# EAGLE library part TPS61200 (library OSSI)
TPS61200 Boost Convertor 300mA Output Current at 3.3v, 600mA Output Current at 5V Operating Input Voltage Range: 0.3V to 5.5V
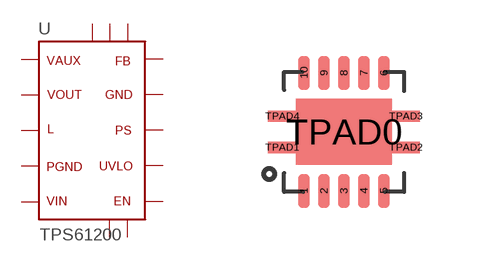
[diagram p23: symbol with the pads of QFN-10-POWERPAD; footprint QFN-10-POWERPAD]

Designator prefix U

## TPS61200  [QFN-10-POWERPAD]
1  P$1  pwr
2  P$2  pwr
3  P$3  in
4  P$4  pwr
5  P$5  pwr
6  P$6  in
7  P$7  in
8  P$8  in
9  P$9  pwr
10  P$10  in
TPAD0  TPAD0
TPAD1  TPAD1
TPAD2  TPAD2
TPAD3  TPAD3
TPAD4  TPAD4

## Footprint QFN-10-POWERPAD (pad centres in mm)
smd 0.28 x 0.85: 1 -1,-1.475; 2 -0.5,-1.475; 3 0,-1.475; 4 0.5,-1.475; 5 1,-1.475; 6 1,1.475; 7 0.5,1.475; 8 0,1.475; 9 -0.5,1.475; 10 -1,1.475
smd 2.4 x 1.65: TPAD0 0,0
smd 0.7 x 0.28: TPAD1 -1.55,-0.39; TPAD2 1.55,-0.39; TPAD3 1.55,0.39; TPAD4 -1.55,0.39